# Altium footprint library Sensor Package.PcbLib: 78 footprints (part 1 of 5)
Each footprint in its own frame and in the unit in brackets; x right, y up, seen from the top. Pads: shape width x height; smd on the part's side, far side on the other; paste and mask are expansions set on the pad; w line width, h text height; cw(c..) or ccw(c..) is an arc to the next point about the centre after c.
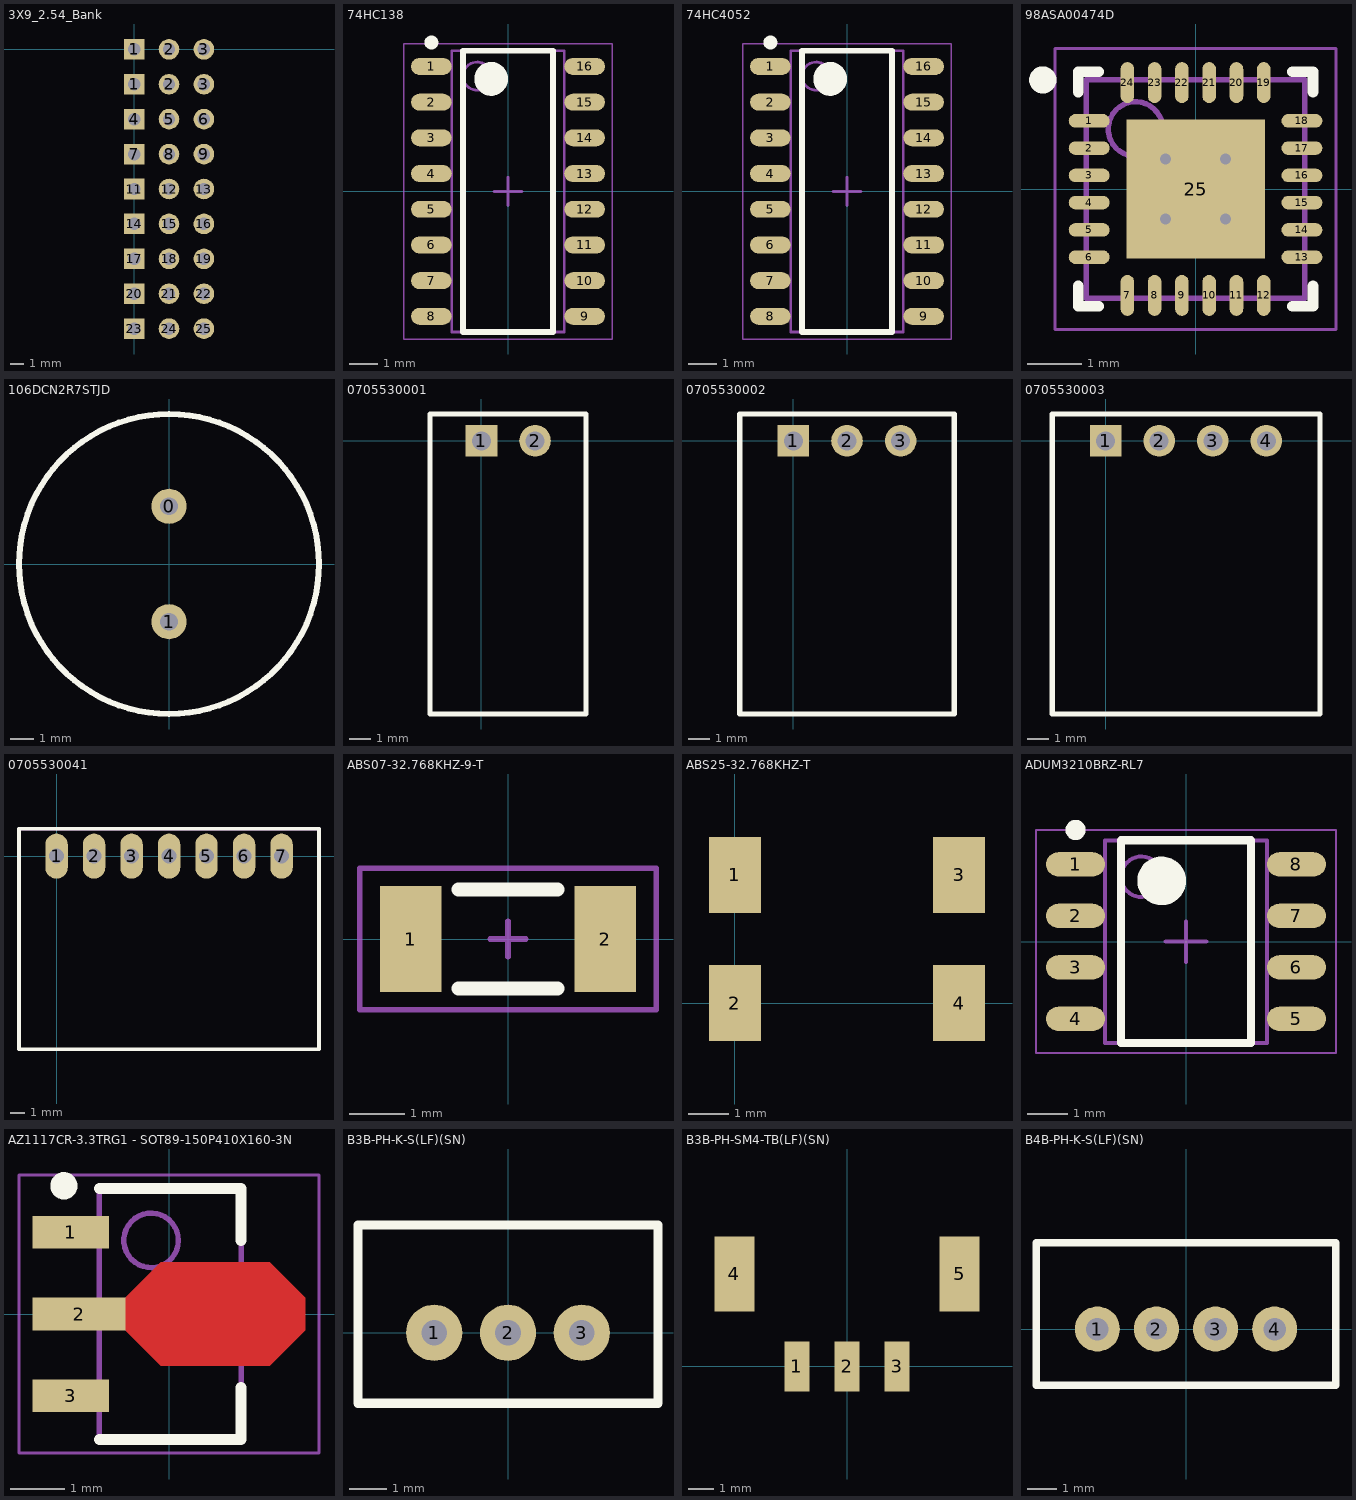
[diagram p0: the footprints below, top view; thin cyan lines are the x and y axes]

## 3X9_2.54_Bank [mm] "Female header 3X9"
pads (27):
  rect 1.5x1.5 hole 0.9: 1(0,-2.54) 1(0,0) 4(0,-5.08) 7(0,-7.62) 11(0,-10.16) 14(0,-12.7) 17(0,-15.24) 20(0,-17.78) 23(0,-20.32)
  round 1.5 hole 0.9: 2(2.54,-2.54) 2(2.54,0) 3(5.08,-2.54) 3(5.08,0) 5(2.54,-5.08) 6(5.08,-5.08) 8(2.54,-7.62) 9(5.08,-7.62) 12(2.54,-10.16) 13(5.08,-10.16) 15(2.54,-12.7) 16(5.08,-12.7) 18(2.54,-15.24) 19(5.08,-15.24) 21(2.54,-17.78) 22(5.08,-17.78) 24(2.54,-20.32) 25(5.08,-20.32)

## 74HC138 [mm] "SOIC, 16-Leads, Body 9.90x3.90mm, Pitch 1.27mm, IPC Medium Density"
height 1.75
pads (16):
  oval 1.45x0.6 smd: 1(-2.725,4.445) 2(-2.725,3.175) 3(-2.725,1.905) 4(-2.725,0.635) 5(-2.725,-0.635) 6(-2.725,-1.905) 7(-2.725,-3.175) 8(-2.725,-4.445) 9(2.725,-4.445) 10(2.725,-3.175) 11(2.725,-1.905) 12(2.725,-0.635) 13(2.725,0.635) 14(2.725,1.905) 15(2.725,3.175) 16(2.725,4.445)
Top Overlay:
  circle w0.25: c-2.725,5.295 r0.125
  circle w0.6: c-0.6,4 r0.3
  lines w0.2: -1.6,-5 -1.6,5 1.6,5 1.6,-5 -1.6,-5
Mechanical 13:
  circle w0.1: c-1.1,4.1 r0.5
  lines w0.1: -2,-5 -2,5 2,5 2,-5 -2,-5
Mechanical 15:
  lines w0.05: -3.7,-5.25 -3.7,5.25 3.7,5.25 3.7,-5.25 -3.7,-5.25
  lines w0.1: -0.5,0 0.5,0 ; 0,-0.5 0,0.5
3D body: height 1.75, standoff 0.1, extent -2,-5 2,5

## 74HC4052 [mm] "SOIC, 16-Leads, Body 9.90x3.90mm, Pitch 1.27mm, IPC Medium Density"
height 1.75
pads (16):
  oval 1.45x0.6 smd: 1(-2.725,4.445) 2(-2.725,3.175) 3(-2.725,1.905) 4(-2.725,0.635) 5(-2.725,-0.635) 6(-2.725,-1.905) 7(-2.725,-3.175) 8(-2.725,-4.445) 9(2.725,-4.445) 10(2.725,-3.175) 11(2.725,-1.905) 12(2.725,-0.635) 13(2.725,0.635) 14(2.725,1.905) 15(2.725,3.175) 16(2.725,4.445)
Top Overlay:
  circle w0.6: c-0.6,4 r0.3
  circle w0.25: c-2.725,5.295 r0.125
  lines w0.2: -1.6,-5 1.6,-5 1.6,5 -1.6,5 -1.6,-5
Mechanical 13:
  circle w0.1: c-1.1,4.1 r0.5
  lines w0.1: -2,-5 2,-5 2,5 -2,5 -2,-5
Mechanical 15:
  lines w0.05: -3.7,-5.25 3.7,-5.25 3.7,5.25 -3.7,5.25 -3.7,-5.25
  lines w0.1: -0.5,0 0.5,0 ; 0,-0.5 0,0.5
3D body: height 1.75, standoff 0.1, extent -2,-5 2,5

## 98ASA00474D [mm] "QFN, 24-Leads, Body 3.98x3.98mm, Pitch 0.50mm, Thermal Pad 2.80x2.80mm, IPC Medium Density"
height 1
pads (25):
  oval 0.75x0.25 smd: 1(-1.95,1.25) 2(-1.95,0.75) 3(-1.95,0.25) 4(-1.95,-0.25) 5(-1.95,-0.75) 6(-1.95,-1.25) 13(1.95,-1.25) 14(1.95,-0.75) 15(1.95,-0.25) 16(1.95,0.25) 17(1.95,0.75) 18(1.95,1.25)
  oval 0.25x0.75 smd: 7(-1.25,-1.95) 8(-0.75,-1.95) 9(-0.25,-1.95) 10(0.25,-1.95) 11(0.75,-1.95) 12(1.25,-1.95) 19(1.25,1.95) 20(0.75,1.95) 21(0.25,1.95) 22(-0.25,1.95) 23(-0.75,1.95) 24(-1.25,1.95)
  rect 2.54x2.54 smd: 25(0,0)
via -0.55,0.55 diameter 0.5 hole 0.2
via 0.55,0.55 diameter 0.5 hole 0.2
via -0.55,-0.55 diameter 0.5 hole 0.2
via 0.55,-0.55 diameter 0.5 hole 0.2
Top Overlay:
  circle w0.25: c-2.8,2 r0.125
  lines w0.2: -2.15,-1.775 -2.15,-2.15 -1.775,-2.15 ; -2.15,1.775 -2.15,2.15 -1.775,2.15 ; 1.775,-2.15 2.15,-2.15 2.15,-1.775 ; 1.775,2.15 2.15,2.15 2.15,1.775
Mechanical 13:
  circle w0.1: c-1.1,1.1 r0.5
  lines w0.1: -2,-2 -2,2 2,2 2,-2 -2,-2
Mechanical 15:
  lines w0.05: -2.575,-2.575 -2.575,2.575 2.575,2.575 2.575,-2.575 -2.575,-2.575
  lines w0.1: -0.5,0 0.5,0 ; 0,-0.5 0,0.5
3D body: height 1, standoff 0.05, extent -2,-2 2,2

## 106DCN2R7STJD [mil] "106DCN2R7STJD"
height 1062.99
pads (2):
  round 60 hole 30: 0(0,98.43) 1(0,-98.43)
Top Overlay:
  circle w10: c0,0 r255.91
3D body: height 1062.99, standoff 0, extent -246.06,-245.93 246.06,245.93

## 0705530001 [mm]
pads (2):
  rect 1.5x1.5 hole 0.9: 1(0,0)
  round 1.5 hole 0.9: 2(2.54,0)
Top Overlay:
  lines w0.254: -2.438,-12.954 4.953,-12.954 4.953,-2.032 4.953,1.27 -2.438,1.27 -2.438,-12.954
3D body "705530001.stp": height 6.96, standoff -3.32, extent -2.413,-12.878 4.953,0.711

## 0705530002 [mm]
pads (3):
  rect 1.5x1.5 hole 0.9: 1(0,0)
  round 1.5 hole 0.9: 2(2.54,0) 3(5.08,0)
Top Overlay:
  lines w0.254: -2.54,-12.954 7.62,-12.954 7.62,0.635 7.62,1.27 -2.54,1.27 -2.54,-12.954
3D body "705530002.stp": height 5.92, standoff -4.37, extent -2.54,-12.954 7.62,0.635

## 0705530003 [mm] "Molex 2.54mm 0705530003"
pads (4):
  rect 1.5x1.5 hole 0.9: 1(0,0)
  round 1.5 hole 0.9: 2(2.54,0) 3(5.08,0) 4(7.62,0)
Top Overlay:
  lines w0.254: -2.54,-12.954 -2.54,1.27 10.16,1.27 10.16,-1.905 10.16,-12.954 -2.54,-12.954
3D body "705530003.stp": height 3.02, standoff -7.26, extent -2.565,-12.954 10.135,0.635

## 0705530041 [mil] "Molex - 0705530041"
pads (7):
  oval 60x120 hole 40: 1(0,0) 2(100,0) 3(200,0) 4(300,0) 5(400,0) 6(500,0) 7(600,0)
Top Overlay:
  lines w10: -100,-515 -100,73 700,73 700,-515 -100,-515
Mechanical 1:
  lines w10: -100,73 700,73
3D body "705530041.stp": height 261.57, standoff -143.43, extent -100,-510 700,25

## ABS07-32.768KHZ-9-T [mm] "Two Pin Crystal Oscilator"
pads (2):
  rect 1.1x1.9 smd: 1(-1.75,0) 2(1.75,0)
Top Overlay:
  lines w0.254: -0.889,-0.889 0.889,-0.889 ; -0.889,0.889 0.889,0.889
Mechanical 15:
  lines w0.1: -0.318,0 0.318,0 ; 0,-0.318 0,0.318 ; -2.667,-1.27 -2.667,1.27 2.667,1.27 2.667,-1.27 -2.667,-1.27
3D body "ABS07.STEP": height 0.89, standoff 0, extent -1.6,-0.749 1.6,0.749

## ABS25-32.768KHZ-T [mm] "RTC Crystal Oscillator"
pads (4):
  rect 1.3x1.9 smd: 1(0,3.2) 2(0,0) 3(5.6,3.2) 4(5.6,0)
3D body "ABS25.STEP": height 2.7, standoff 0.04, extent -1.206,-0.349 6.794,3.651

## ADUM3210BRZ-RL7 [mm] "SOIC, 8-Leads, Body 4.90x3.90mm, Pitch 1.27mm, IPC Medium Density"
height 1.75
pads (8):
  oval 1.45x0.6 smd: 1(-2.725,1.905) 2(-2.725,0.635) 3(-2.725,-0.635) 4(-2.725,-1.905) 5(2.725,-1.905) 6(2.725,-0.635) 7(2.725,0.635) 8(2.725,1.905)
Top Overlay:
  circle w0.25: c-2.725,2.755 r0.125
  circle w0.6: c-0.6,1.5 r0.3
  lines w0.2: -1.6,-2.5 -1.6,2.5 1.6,2.5 1.6,-2.5 -1.6,-2.5
Mechanical 13:
  circle w0.1: c-1.1,1.6 r0.5
  lines w0.1: -2,-2.5 -2,2.5 2,2.5 2,-2.5 -2,-2.5
Mechanical 15:
  lines w0.05: -3.7,-2.75 -3.7,2.75 3.7,2.75 3.7,-2.75 -3.7,-2.75
  lines w0.1: -0.5,0 0.5,0 ; 0,-0.5 0,0.5
3D body: height 1.75, standoff 0.1, extent -2,-2.5 2,2.5

## AZ1117CR-3.3TRG1 - SOT89-150P410X160-3N [mm] "SOT89, 3-Leads, Body 4.50x2.45mm, Pitch 1.50mm, Lead Span 4.1mm, IPC Medium Density"
height 1.6
pads (3):
  rect 1.4x0.6 smd: 1(-1.8,1.5) 3(-1.8,-1.5)
  rect 1.7x0.6 smd: 2(-1.65,0)
Top Layer:
  region: -0.8,0.3 -0.15,0.95 1.85,0.95 2.5,0.3 2.5,-0.3 1.85,-0.95 -0.15,-0.95 -0.8,-0.3
Top Overlay:
  circle w0.25: c-1.928,2.35 r0.125
  lines w0.2: -1.278,-2.3 1.322,-2.3 1.322,-1.35 ; -1.278,2.3 1.322,2.3 1.322,1.35
Mechanical 13:
  circle w0.1: c-0.327,1.35 r0.5
  lines w0.1: -1.278,-2.3 1.322,-2.3 1.322,2.3 -1.278,2.3 -1.278,-2.3
Mechanical 15:
  lines w0.05: -2.75,-2.55 2.75,-2.55 2.75,2.55 -2.75,2.55 -2.75,-2.55
  lines w0.1: -0.478,0 0.522,0 ; 0.022,-0.5 0.022,0.5
3D body: height 1.6, standoff 0, extent -1.278,-2.3 1.322,2.3

## B3B-PH-K-S(LF)(SN) [mil] "B3B-PH-K-S(LF)(SN)"
pads (3):
  round 60 hole 27.56: 1(-78.74,0) 2(0,0) 3(78.74,0)
Top Overlay:
  lines w10: -160,-75 160,-75 160,-70 160,115 -160,115 -160,-75
3D body "B3B-PH-K-S.STEP": height 236.22, standoff -133.86, extent -155.51,-67.16 155.51,110

## B3B-PH-SM4-TB(LF)(SN) [mm] "3 pin SMT connector"
pads (5):
  rect 1x2 smd: 1(-2,0) 2(0,0) 3(2,0)
  rect 1.6x3 smd: 4(-4.5,3.7) 5(4.5,3.7)
3D body "B3B-PH-SM4-TB.STEP": height 6.6, standoff 0, extent -4.975,-0.762 4.975,6.238

## B4B-PH-K-S(LF)(SN) [mil] "B4B-PH-K-S(LF)(SN)"
pads (4):
  round 60 hole 30: 1(-118.11,0) 3(39.37,0) 4(118.11,0)
  round 60 hole 27.56: 2(-39.37,0)
Top Overlay:
  lines w10: -200,-75 200,-75 200,115 -200,115 -200,-75
3D body "B4B-PH-K-S.STEP": height 236.22, standoff -133.86, extent -194.88,-67.16 194.88,110